# Altium schematic symbol library cb_lib.SchLib: 85 symbols
Pins are listed as number, name and electrical type; pins without a type are passive.

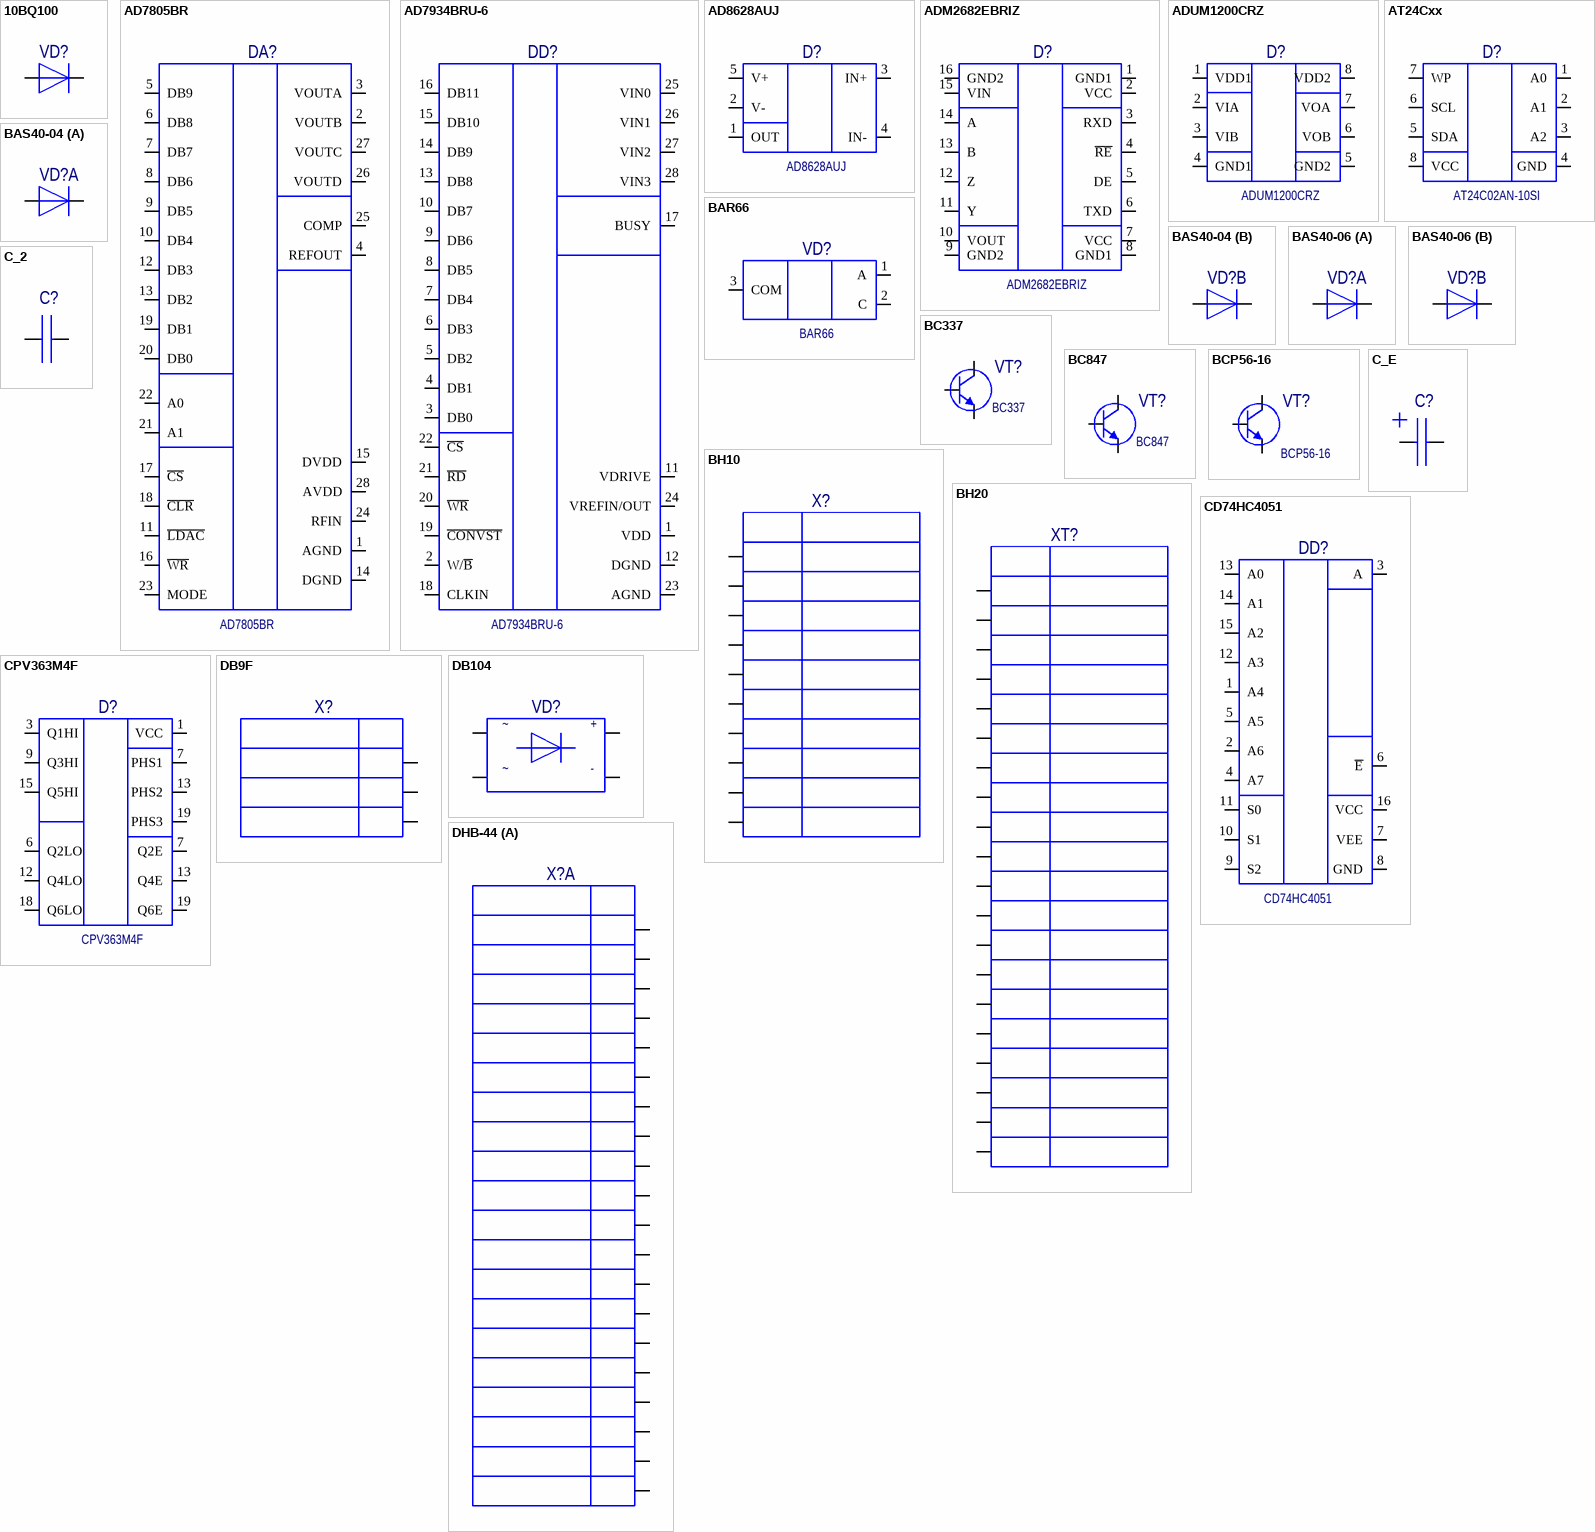
[diagram p0: symbols 10BQ100 to DHB-44]

## 10BQ100
designator VD?  (value not drawn)
Manufacturer: ф.  Vishay; Type: Диод; Pack: SMB(DO-214AA); BCDId: *; ManufacturerPartNumber: 10BQ100; TU/GOST: *; ValueBOM: *
footprint SMB (DO-214-AA/SMB; 2 C-Bend Leads; Body 5.3 x 3.6 mm, inc. leads (LxW))
pins: 1, 2

## AD7805BR
designator DA?
Manufacturer: ф. Analog Devices; BCDId: *; ManufacturerPartNumber: AD7805BR; TU/GOST: *; Type: Микросхема; ValueBOM: *
footprint SO28_M (28-Pin Plastic Small Outline Integrated Circuit 1.27 mm Pitch, IPC Low Density)
pins: 1 AGND, 2 VOUTB, 3 VOUTA, 4 REFOUT, 5 DB9, 6 DB8, 7 DB7, 8 DB6, 9 DB5, 10 DB4, 11 ~{LDAC}, 12 DB3, 13 DB2, 14 DGND, 15 DVDD, 16 ~{WR}, 17 ~{CS}, 18 ~{CLR}, 19 DB1, 20 DB0, 21 A1, 22 A0, 23 MODE, 24 RFIN, 25 COMP, 26 VOUTD, 27 VOUTC, 28 AVDD

## AD7934BRU-6
designator DD?
Manufacturer: ф. Analog Devices; BCDId: *; ManufacturerPartNumber: AD7934BRU-6; TU/GOST: *; Type: Микросхема; ValueBOM: *
footprint SO28_M (28-Pin Plastic Small Outline Integrated Circuit 1.27 mm Pitch, IPC Low Density)
pins: 1 VDD, 2 W/~{B}, 3 DB0, 4 DB1, 5 DB2, 6 DB3, 7 DB4, 8 DB5, 9 DB6, 10 DB7, 11 VDRIVE, 12 DGND, 13 DB8, 14 DB9, 15 DB10, 16 DB11, 17 BUSY, 18 CLKIN, 19 ~{CONVST}, 20 ~{WR}, 21 ~{RD}, 22 ~{CS}, 23 AGND, 24 VREFIN/OUT, 25 VIN0, 26 VIN1, 27 VIN2, 28 VIN3

## AD8628AUJ
designator D?
Manufacturer: ф. Analog Devices; Type: Микросхема; BCDId: *; ManufacturerPartNumber: AD8628AUJ; TU/GOST: *; ValueBOM: *
pins: 1 OUT, 2 V-, 3 IN+, 4 IN-, 5 V+

## ADM2682EBRIZ
designator D?
Manufacturer: ф. Analog Devices; Type: Микросхема; BCDId: *; ManufacturerPartNumber: ADM2682EBRIZ; TU/GOST: *; ValueBOM: *
pins: 1 GND1, 2 VCC, 3 RXD, 4 ~{RE}, 5 DE, 6 TXD, 7 VCC, 8 GND1, 9 GND2, 10 VOUT, 11 Y, 12 Z, 13 B, 14 A, 15 VIN, 16 GND2

## ADUM1200CRZ
designator D?
Manufacturer: ф. Analog Devices; Type: Микросхема; BCDId: *; ManufacturerPartNumber: ADUM1200CRZ; TU/GOST: *; ValueBOM: *
pins: 1 VDD1, 2 VIA, 3 VIB, 4 GND1, 5 GND2, 6 VOB, 7 VOA, 8 VDD2

## AT24Cxx
designator D?, comment AT24C02AN-10SI
Manufacturer: ф. Atmel; Type: Микросхема; BCDId: *; ManufacturerPartNumber: AT24C02AN-10SI; TU/GOST: *; ValueBOM: *
pins: 1 A0, 2 A1, 3 A2, 4 GND, 5 SDA, 6 SCL, 7 WP, 8 VCC

## BAR66
designator VD?
Manufacturer: ф. Infineon; Type: Диод; BCDId: *; ManufacturerPartNumber: BAR66; TU/GOST: *; ValueBOM: *
footprint SOT23_M (SOT23, 3-Leads, Body 2.9x1.3mm, Pitch 0.95mm, Lead Span 2.3mm - Reverse Pinning, IPC Low Density)
pins: 1 A, 2 C, 3 COM

## BAS40-04
designator VD?  (value not drawn)
Manufacturer: ф. NXP; Type: Диод; Pack: SOT23; BCDId: *; ManufacturerPartNumber: BAS40-04; TU/GOST: *; ValueBOM: *
footprint SOT23_M (SOT23, 3-Leads, Body 2.9x1.3mm, Pitch 0.95mm, Lead Span 2.3mm - Reverse Pinning, IPC Low Density)
part A pins: 1, 2
part B pins: 2, 3

## BAS40-06
designator VD?  (value not drawn)
Manufacturer: ф. NXP; Type: Диод; Pack: SOT23; BCDId: *; ManufacturerPartNumber: BAS40-06; TU/GOST: *; ValueBOM: *
footprint SOT23_M (SOT23, 3-Leads, Body 2.9x1.3mm, Pitch 0.95mm, Lead Span 2.3mm - Reverse Pinning, IPC Low Density)
part A pins: 1, 3
part B pins: 2, 3

## BC337
designator VT?
Manufacturer: ф. NXP; Type: Транзистор; BCDId: *; ManufacturerPartNumber: BC337; TU/GOST: *; ValueBOM: *
footprint TO-92A (TO, Flat Index; 3 In-Line, Axial Leads; Body Dia. 4.5mm; Leads 0.51 x 0.48 mm (max))
pins: 1 C, 2 B, 3 E

## BC847
designator VT?
Manufacturer: ф. NXP; Type: Транзистор; BCDId: *; ManufacturerPartNumber: BC847; TU/GOST: *; ValueBOM: *
footprint SOT23_M (SOT23, 3-Leads, Body 2.9x1.3mm, Pitch 0.95mm, Lead Span 2.3mm - Reverse Pinning, IPC Low Density)
pins: 1 B, 2 E, 3 C

## BCP56-16
designator VT?
Manufacturer: ф. NXP; Type: Транзистор; BCDId: *; ManufacturerPartNumber: BCP56-16; TU/GOST: *; ValueBOM: *
footprint SOT223_M (SOT223, 4-Leads, Body 6.5x3.5mm, Pitch 2.3mm, Lead Span 7mm, IPC Low Density)
pins: 1 B, 3 E, 4 C

## BH10
designator X?  (value not drawn)
Manufacturer: ф. Ningbo Zhenqin Electronic; ManufacturerPartNumber: BH-10; BCDId: *; TU/GOST: *; Type: Разъём; ValueBOM: *
footprint HDR2X5 (Connector; Header; 5x2 Position)
pins: 1, 2, 3, 4, 5, 6, 7, 8, 9, 10

## BH20
designator XT?  (value not drawn)
Manufacturer: ф. Ningbo Zhenqin Electronic; ManufacturerPartNumber: BH-20; BCDId: *; TU/GOST: *; Type: Разъём; ValueBOM: *
footprint BH20 (Connector; Header; 10x2 Position)
pins: 1, 2, 3, 4, 5, 6, 7, 8, 9, 10, 11, 12, 13, 14, 15, 16, 17, 18, 19, 20

## C_2
designator C?
Manufacturer: ф. Kemet; Name: X7R, 0805; Power/Voltage: 50В; Tolerance: 5%; Type: Конденсатор; Value: 0.1 мкФ; BCDId: *; ManufacturerPartNumber: *; Rem: *; TKE/TCK: *; TU/GOST: *; ValueBOM: *
footprint 6-0805_M (Chip Resistor, Body 2.0x1.2mm, IPC Low Density)
pins: 1, 2

## C_E
designator C?
Manufacturer: ф. Kemet; ManufacturerPartNumber: T491C106K025AT; Name: 2412; Power/Voltage: 25В; Tolerance: 10%; Type: Конденсатор; Value: 10 мкФ; BCDId: *; Package: *; Rem: *; TKE/TCK: *; TU/GOST: *; ValueBOM: *
footprint C (Capacitor, SM Tantalum; Body 6.0 x 3.2 mm (LxW typ))
pins: 1, 2

## CD74HC4051
designator DD?
Manufacturer: ф. TI; ManufacturerPartNumber: CD74HC4051M; BCDId: *; TU/GOST: *; Type: Микросхема; ValueBOM: *
footprint SO-16_M (SOIC, 16-Leads, Body 9.9x3.9mm, Pitch 1.27mm, IPC Low Density)
pins: 1 A4, 2 A6, 3 A, 4 A7, 5 A5, 6 ~{E}, 7 VEE, 8 GND, 9 S2, 10 S1, 11 S0, 12 A3, 13 A0, 14 A1, 15 A2, 16 VCC

## CPV363M4F
designator D?
Manufacturer: ф. Vishay; Type: Микросхема; BCDId: *; ManufacturerPartNumber: CPV363M4F; TU/GOST: *; ValueBOM: *
footprint IMS-2 (SIP; 19 Leads (6 Absent); Body 62.4 x 7.9 mm (LxW typ); Pitch 2.54 mm)
pins: 1 VCC, 3 Q1HI, 6 Q2LO, 7 Q2E, 7 PHS1, 9 Q3HI, 12 Q4LO, 13 Q4E, 13 PHS2, 15 Q5HI, 18 Q6LO, 19 Q6E, 19 PHS3

## DB9F
designator X?  (value not drawn)
Manufacturer: ф. Ningbo Zhenqin Electronic; ManufacturerPartNumber: DRB- 9FA (DS1037-9F); BCDId: *; TU/GOST: *; Type: Разъём; ValueBOM: *
pins: 2, 3, 5

## DB104
designator VD?  (value not drawn)
Manufacturer: ф.  Vishay; Type: Диодный мост; BCDId: *; ManufacturerPartNumber: DB104
footprint DIP-4 - diode
pins: 1, 3, 4, 6
text: ~; +; -

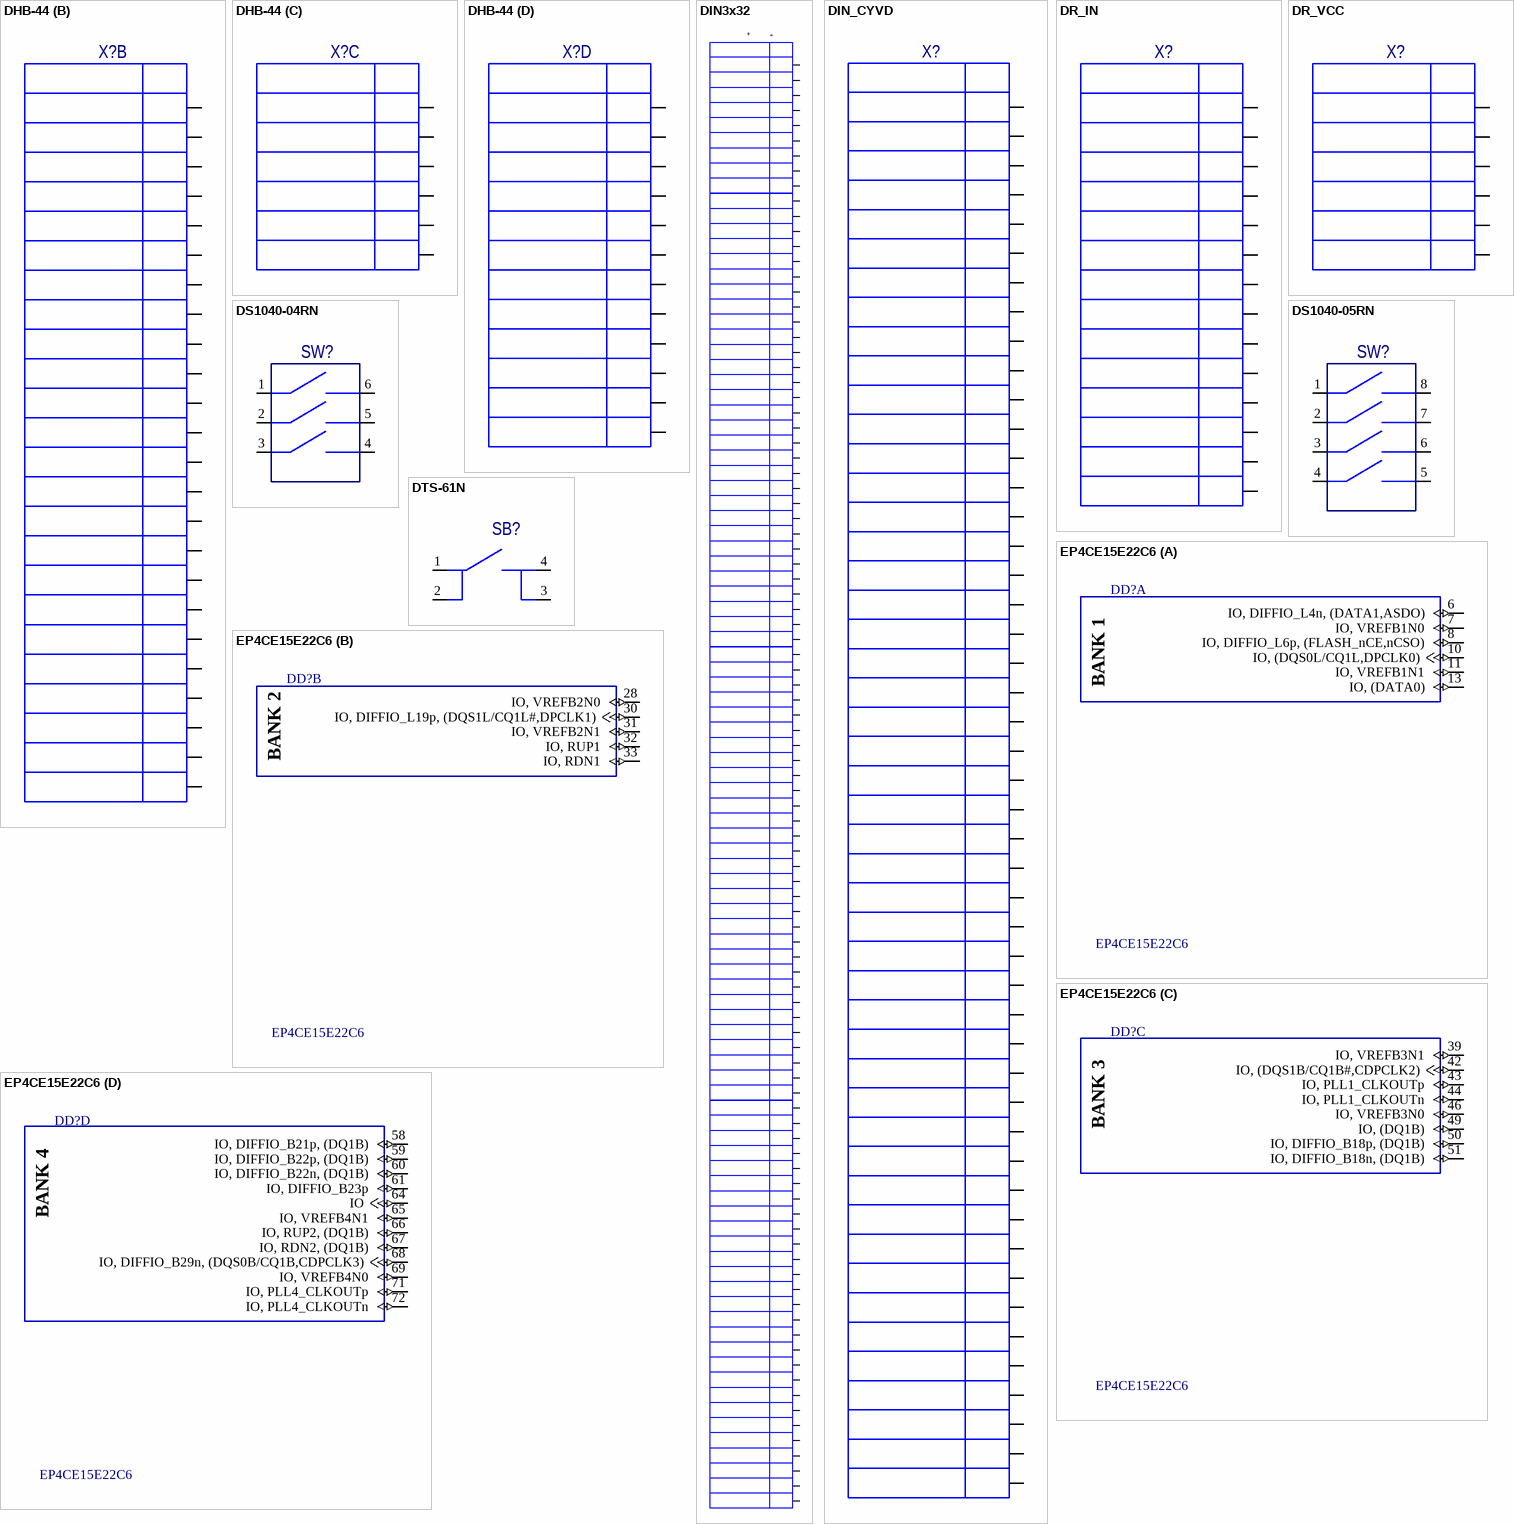
[diagram p1: symbols DHB-44 to EP4CE15E22C6]

## DHB-44
designator X?  (value not drawn)
Manufacturer: ф. Ningbo Zhenqin Electronic; BCDId: *; ManufacturerPartNumber: DHB-44; TU/GOST: *; Type: Разъём; ValueBOM: *
part A pins: 1, 2, 3, 4, 5, 6, 7, 8, 9, 10, 11, 12, 13, 14, 15, 16, 17, 18, 19, 20
part B pins: 21, 22, 23, 24, 25, 26, 27, 28, 29, 30, 31, 32, 33, 34, 35, 36, 37, 38, 39, 40, 41, 42, 43, 44
part C pins: 45, 46, 47, 48, 49, 50
part D pins: 51, 52, 53, 54, 55, 56, 57, 58, 59, 60, 61, 62

## DIN3x32
designator *
pins: 1a, 1b, 1c, 2a, 2b, 2c, 3a, 3b, 3c, 4a, 4b, 4c, 5a, 5b, 5c, 6a, 6b, 6c, 7a, 7b, 7c, 8a, 8b, 8c, 9a, 9b, 9c, 10a, 10b, 10c, 11a, 11b, 11c, 12a, 12b, 12c, 13a, 13b, 13c, 14a, 14b, 14c, 15a, 15b, 15c, 16a, 16b, 16c, 17a, 17b, 17c, 18a, 18b, 18c, 19a, 19b, 19c, 20a, 20b, 20c, 21a, 21b, 21c, 22a, 22b, 22c, 23a, 23b, 23c, 24a, 24b, 24c, 25a, 25b, 25c, 26a, 26b, 26c, 27a, 27b, 27c, 28a, 28b, 28c, 29a, 29b, 29c, 30a, 30b, 30c, 31a, 31b, 31c, 32a, 32b, 32c

## DIN_CYVD
designator X?  (value not drawn)
Manufacturer: ф. Molex Part number 85003-0177; ManufacturerPartNumber: Вилка угловая 3x32; BCDId: *; TU/GOST: *; Type: Разъём; ValueBOM: *
pins: 1a, 1b, 1c, 2a, 2b, 2c, 3a, 3b, 3c, 4a, 4b, 5a, 5b, 5c, 6a, 6b, 6c, 7a, 7b, 7c, 8a, 8b, 8c, 9a, 9b, 9c, 10a, 10b, 10c, 11a, 11b, 11c, 12a, 12c, 13a, 13b, 13c, 14a, 14b, 14c, 15a, 16a, 31a, 31b, 31c, 32a, 32b, 32c

## DR_IN
designator X?  (value not drawn)
Manufacturer: ф. TE Connectivity; ManufacturerPartNumber: Розетка 1x14 AMPMODU 1-102241-2; Otvet: 280372-2; BCDId: *; TU/GOST: *; Type: Разъём; ValueBOM: *
pins: 1, 2, 3, 4, 5, 6, 7, 8, 9, 10, 11, 12, 13, 14

## DR_VCC
designator X?  (value not drawn)
Manufacturer: ф. TE Connectivity; ManufacturerPartNumber: Вилка 1x6 AMPMODU 280372-2; BCDId: *; TU/GOST: *; Type: Разъём; ValueBOM: *
pins: 1, 2, 3, 4, 5, 6

## DS1040-04RN
designator SW?  (value not drawn)
BCDId: *; ManufacturerPartNumber: DS1040-04RN; TU/GOST: *; Type: DIP переключатель; ValueBOM: *
footprint DIP-SW-6 (DIP SWITCH; 6 Leads; Row Spacing 7.62 mm; Pitch 2.54 mm)
pins: 1, 2, 3, 4, 5, 6

## DS1040-05RN
designator SW?  (value not drawn)
Manufacturer: ф. Connfly; BCDId: *; ManufacturerPartNumber: DS1040-05RN; TU/GOST: *; Type: DIP переключатель; ValueBOM: *
footprint DIP-SW-8 (DIPSWITCH; 8 Leads; Row Spacing 7.62 mm; Pitch 2.54 mm)
pins: 1, 2, 3, 4, 5, 6, 7, 8

## DTS-61N
designator SB?  (value not drawn)
Manufacturer: ф. Switronic Industrial; BCDId: *; ManufacturerPartNumber: DTS-61N; TU/GOST: *; Type: Кнопка тактовая; ValueBOM: *
pins: 1, 2, 3, 4

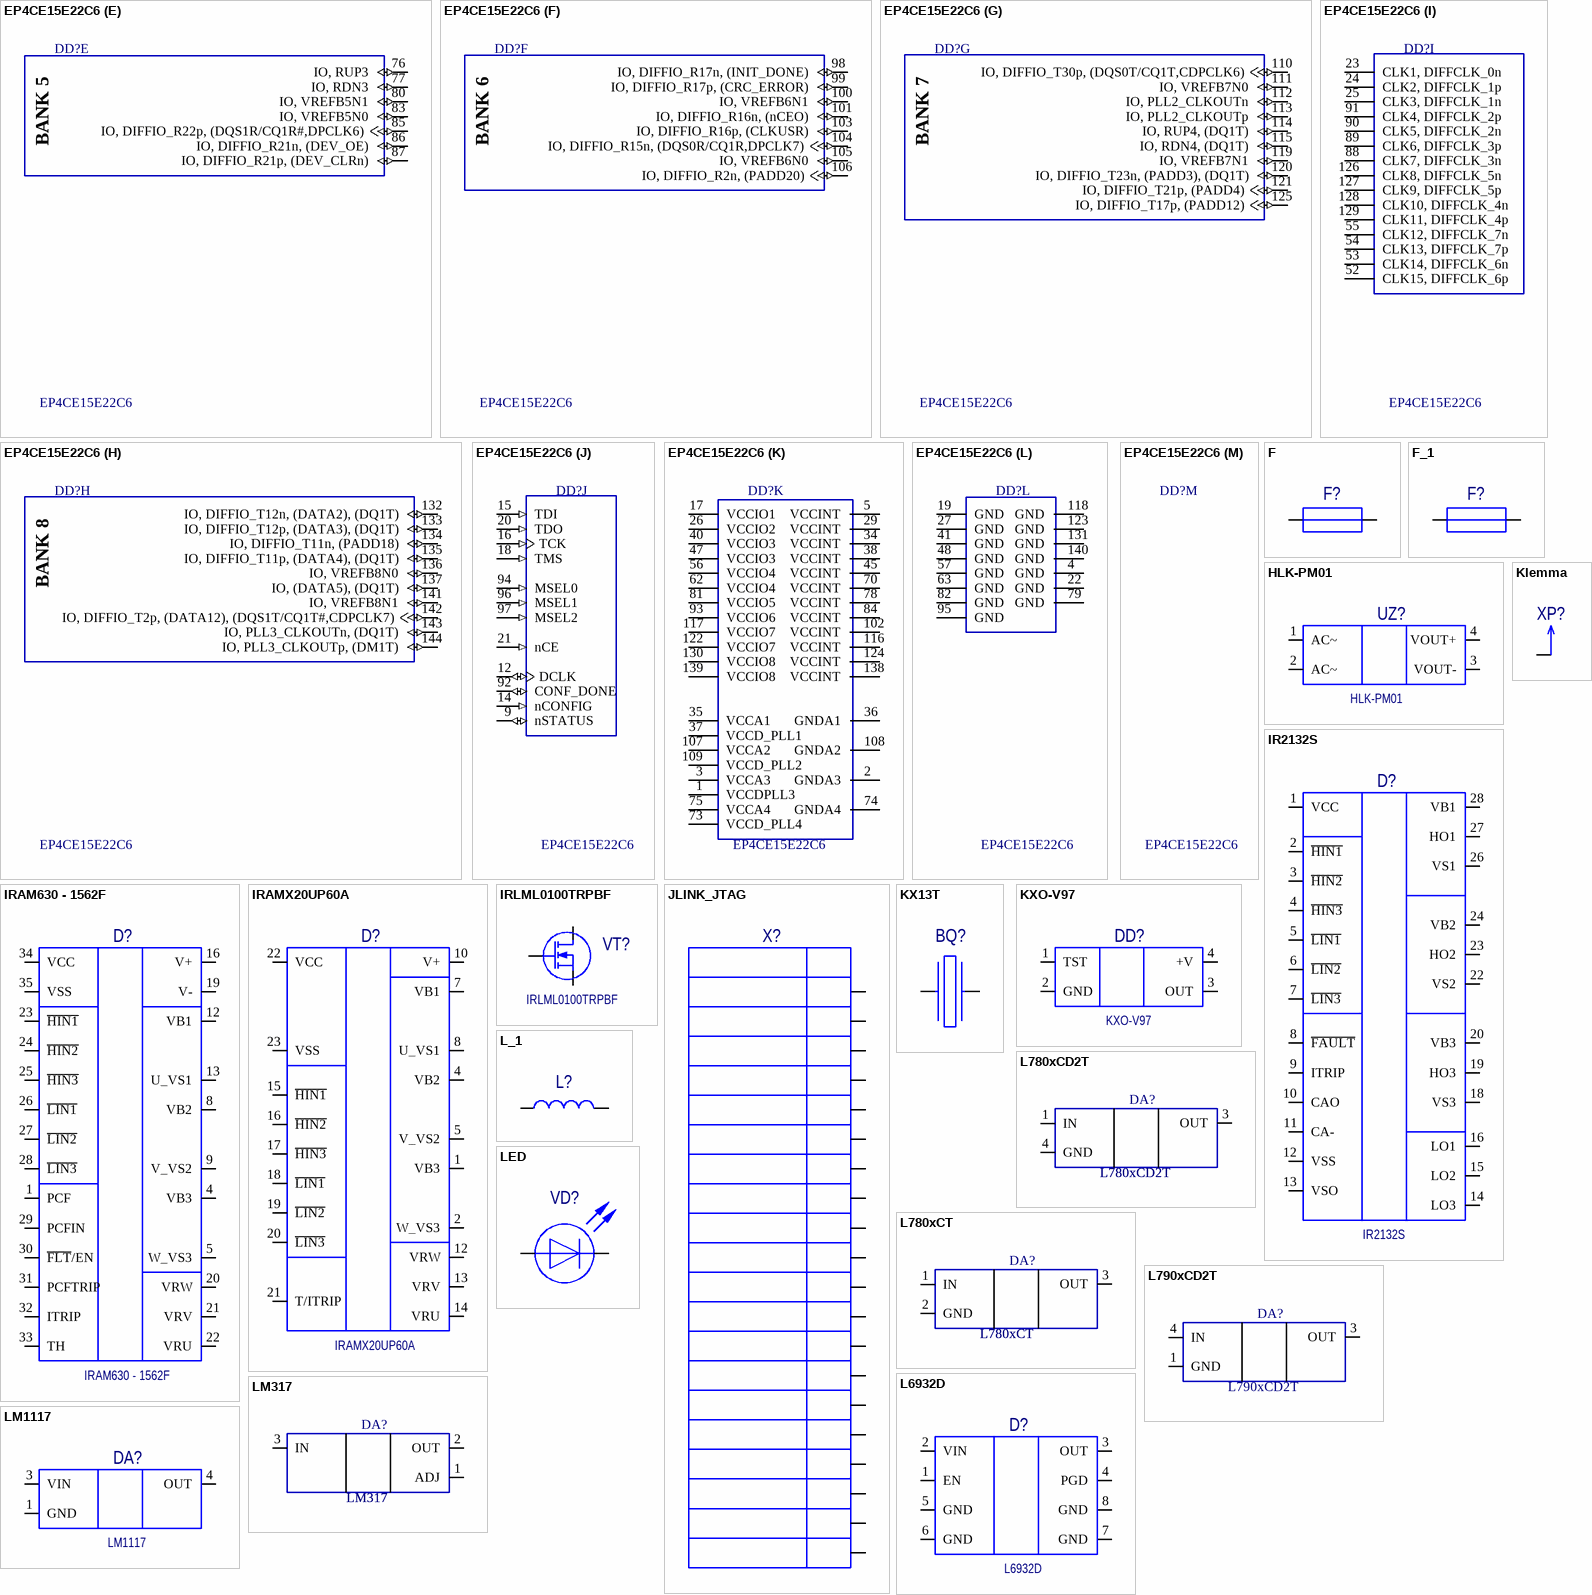
[diagram p2: symbols EP4CE15E22C6 to LM1117]

## EP4CE15E22C6
designator DD?
Cyclone IV Family FPGA, 2V Core, 81 I/O Pins, 4 PLLs, 144-Pin QFP, Speed Grade 6, Commercial Grade; Manufacturer: ф. Altera; BCDId: *; ManufacturerPartNumber: EP4CE15E22C6; Type: Микросхема
footprint EQFP144_M (Thin QFP, 144-Leads, Body 20x20mm, Pitch 0.5mm, IPC Low Density)
part A pins: 6 IO, DIFFIO_L4n, (DATA1,ASDO) (io), 7 IO, VREFB1N0 (io), 8 IO, DIFFIO_L6p, (FLASH_nCE,nCSO) (io), 10 IO, (DQS0L/CQ1L,DPCLK0) (io), 11 IO, VREFB1N1 (io), 13 IO, (DATA0) (io)
part B pins: 28 IO, VREFB2N0 (io), 30 IO, DIFFIO_L19p, (DQS1L/CQ1L#,DPCLK1) (io), 31 IO, VREFB2N1 (io), 32 IO, RUP1 (io), 33 IO, RDN1 (io)
part C pins: 39 IO, VREFB3N1 (io), 42 IO, (DQS1B/CQ1B#,CDPCLK2) (io), 43 IO, PLL1_CLKOUTp (io), 44 IO, PLL1_CLKOUTn (io), 46 IO, VREFB3N0 (io), 49 IO, (DQ1B) (io), 50 IO, DIFFIO_B18p, (DQ1B) (io), 51 IO, DIFFIO_B18n, (DQ1B) (io)
part D pins: 58 IO, DIFFIO_B21p, (DQ1B) (io), 59 IO, DIFFIO_B22p, (DQ1B) (io), 60 IO, DIFFIO_B22n, (DQ1B) (io), 61 IO, DIFFIO_B23p (io), 64 IO (io), 65 IO, VREFB4N1 (io), 66 IO, RUP2, (DQ1B) (io), 67 IO, RDN2, (DQ1B) (io), 68 IO, DIFFIO_B29n, (DQS0B/CQ1B,CDPCLK3) (io), 69 IO, VREFB4N0 (io), 71 IO, PLL4_CLKOUTp (io), 72 IO, PLL4_CLKOUTn (io)
part E pins: 76 IO, RUP3 (io), 77 IO, RDN3 (io), 80 IO, VREFB5N1 (io), 83 IO, VREFB5N0 (io), 85 IO, DIFFIO_R22p, (DQS1R/CQ1R#,DPCLK6) (io), 86 IO, DIFFIO_R21n, (DEV_OE) (io), 87 IO, DIFFIO_R21p, (DEV_CLRn) (io)
part F pins: 98 IO, DIFFIO_R17n, (INIT_DONE) (io), 99 IO, DIFFIO_R17p, (CRC_ERROR) (io), 100 IO, VREFB6N1 (io), 101 IO, DIFFIO_R16n, (nCEO) (io), 103 IO, DIFFIO_R16p, (CLKUSR) (io), 104 IO, DIFFIO_R15n, (DQS0R/CQ1R,DPCLK7) (io), 105 IO, VREFB6N0 (io), 106 IO, DIFFIO_R2n, (PADD20) (io)
part G pins: 110 IO, DIFFIO_T30p, (DQS0T/CQ1T,CDPCLK6) (io), 111 IO, VREFB7N0 (io), 112 IO, PLL2_CLKOUTn (io), 113 IO, PLL2_CLKOUTp (io), 114 IO, RUP4, (DQ1T) (io), 115 IO, RDN4, (DQ1T) (io), 119 IO, VREFB7N1 (io), 120 IO, DIFFIO_T23n, (PADD3), (DQ1T) (io), 121 IO, DIFFIO_T21p, (PADD4) (io), 125 IO, DIFFIO_T17p, (PADD12) (io)
part H pins: 132 IO, DIFFIO_T12n, (DATA2), (DQ1T) (io), 133 IO, DIFFIO_T12p, (DATA3), (DQ1T) (io), 134 IO, DIFFIO_T11n, (PADD18) (io), 135 IO, DIFFIO_T11p, (DATA4), (DQ1T) (io), 136 IO, VREFB8N0 (io), 137 IO, (DATA5), (DQ1T) (io), 141 IO, VREFB8N1 (io), 142 IO, DIFFIO_T2p, (DATA12), (DQS1T/CQ1T#,CDPCLK7) (io), 143 IO, PLL3_CLKOUTn, (DQ1T) (io), 144 IO, PLL3_CLKOUTp, (DM1T) (io)
part I pins: 23 CLK1, DIFFCLK_0n, 24 CLK2, DIFFCLK_1p, 25 CLK3, DIFFCLK_1n, 52 CLK15, DIFFCLK_6p, 53 CLK14, DIFFCLK_6n, 54 CLK13, DIFFCLK_7p, 55 CLK12, DIFFCLK_7n, 88 CLK7, DIFFCLK_3n, 89 CLK6, DIFFCLK_3p, 90 CLK5, DIFFCLK_2n, 91 CLK4, DIFFCLK_2p, 126 CLK8, DIFFCLK_5n, 127 CLK9, DIFFCLK_5p, 128 CLK10, DIFFCLK_4n, 129 CLK11, DIFFCLK_4p
part J pins: 9 nSTATUS (io), 12 DCLK (io), 14 nCONFIG (in), 15 TDI (in), 16 TCK (in), 18 TMS (in), 20 TDO (in), 21 nCE (in), 92 CONF_DONE (io), 94 MSEL0 (in), 96 MSEL1 (in), 97 MSEL2 (in)
part K pins: 1 VCCDPLL3, 2 GNDA3, 3 VCCA3, 5 VCCINT (power), 17 VCCIO1, 26 VCCIO2, 29 VCCINT (power), 34 VCCINT (power), 35 VCCA1, 36 GNDA1, 37 VCCD_PLL1, 38 VCCINT (power), 40 VCCIO3, 45 VCCINT (power), 47 VCCIO3, 56 VCCIO4, 62 VCCIO4, 70 VCCINT (power), 73 VCCD_PLL4, 74 GNDA4, 75 VCCA4, 78 VCCINT (power), 81 VCCIO5, 84 VCCINT (power), 93 VCCIO6, 102 VCCINT (power), 107 VCCA2, 108 GNDA2, 109 VCCD_PLL2, 116 VCCINT (power), 117 VCCIO7, 122 VCCIO7, 124 VCCINT (power), 130 VCCIO8, 138 VCCINT (power), 139 VCCIO8
part L pins: 4 GND (power), 19 GND (power), 22 GND (power), 27 GND (power), 41 GND (power), 48 GND (power), 57 GND (power), 63 GND (power), 79 GND (power), 82 GND (power), 95 GND (power), 118 GND (power), 123 GND (power), 131 GND (power), 140 GND (power)
part A text: BANK 1
part B text: BANK 2
part C text: BANK 3
part D text: BANK 4
part E text: BANK 5
part F text: BANK 6
part G text: BANK 7
part H text: BANK 8

## F
designator F?
Type: Деражтель для предохранителя; BCDId: *; ValueBOM: *
footprint FH-101 (Fuse)
pins: 1, 2

## F_1
designator F?
Manufacturer: ф.  Bournce; Name: MF-MSMF075/24; Type: Предохранитель; Value: 1,5 А; BCDId: *; ManufacturerPartNumber: *; Power/Voltage: *; Rem: *; TKE/TCK: *; Tolerance: *; TU/GOST: *; ValueBOM: *
footprint 1812 (Chip Capacitor, Body 4.5x3.2mm, IPC High Density)
pins: 1, 2

## HLK-PM01
designator UZ?
Manufacturer: ф. Hi-link; ManufacturerPartNumber: HLK-PM01 5В/3Вт; BCDId: *; TU/GOST: *; Type: Вторичный источник питания; ValueBOM: *
footprint HLK-PM01
pins: 1 AC~, 2 AC~, 3 VOUT-, 4 VOUT+

## IR2132S
designator D?
Manufacturer: ф. IR; Type: Микросхема; BCDId: *; ManufacturerPartNumber: IR2132S; TU/GOST: *; ValueBOM: *
pins: 1 VCC, 2 ~{HIN1}, 3 ~{HIN2}, 4 ~{HIN3}, 5 ~{LIN1}, 6 ~{LIN2}, 7 ~{LIN3}, 8 ~{FAULT}, 9 ITRIP, 10 CAO, 11 CA-, 12 VSS, 13 VSO, 14 LO3, 15 LO2, 16 LO1, 18 VS3, 19 HO3, 20 VB3, 22 VS2, 23 HO2, 24 VB2, 26 VS1, 27 HO1, 28 VB1

## IRAM630 - 1562F
designator D?
Manufacturer: ф. International Rectifier; Type: Микросхема; BCDId: *; ManufacturerPartNumber: IRAM630 - 1562F; TU/GOST: *; ValueBOM: *
pins: 1 PCF, 4 VB3, 5 W_VS3, 8 VB2, 9 V_VS2, 12 VB1, 13 U_VS1, 16 V+, 19 V-, 20 VRW, 21 VRV, 22 VRU, 23 ~{HIN1}, 24 ~{HIN2}, 25 ~{HIN3}, 26 ~{LIN1}, 27 ~{LIN2}, 28 ~{LIN3}, 29 PCFIN, 30 ~{FLT}/EN, 31 PCFTRIP, 32 ITRIP, 33 TH, 34 VCC, 35 VSS

## IRAMX20UP60A
designator D?
Manufacturer: ф. IR; Type: Микросхема; BCDId: *; ManufacturerPartNumber: IRAMX20UP60A; TU/GOST: *; ValueBOM: *
footprint IMS-2 (SIP; 19 Leads (6 Absent); Body 62.4 x 7.9 mm (LxW typ); Pitch 2.54 mm)
pins: 1 VB3, 2 W_VS3, 4 VB2, 5 V_VS2, 7 VB1, 8 U_VS1, 10 V+, 12 VRW, 13 VRV, 14 VRU, 15 ~{HIN1}, 16 ~{HIN2}, 17 ~{HIN3}, 18 ~{LIN1}, 19 ~{LIN2}, 20 ~{LIN3}, 21 T/ITRIP, 22 VCC, 23 VSS

## IRLML0100TRPBF
designator VT?
Manufacturer: ф. IR; Type: Транзистор; BCDId: *; ManufacturerPartNumber: IRLML0100TRPBF; TU/GOST: *; ValueBOM: *
footprint SOT23_M (SOT23, 3-Leads, Body 2.9x1.3mm, Pitch 0.95mm, Lead Span 2.3mm - Reverse Pinning, IPC Low Density)
pins: 1 G, 2 S, 3 D

## JLINK_JTAG
designator X?  (value not drawn)
Manufacturer: ф. Molex Part number 70247-2054; ManufacturerPartNumber: Вилка угловая 2x10; BCDId: *; TU/GOST: *; Type: Разъём; ValueBOM: *
pins: 1, 2, 3, 4, 5, 6, 7, 8, 9, 10, 11, 12, 13, 14, 15, 16, 17, 18, 19, 20

## Klemma
designator XP?  (value not drawn)
ManufacturerPartNumber: 4,8мм на плату(2310BL-2); BCDId: *; TU/GOST: *; Type: Клемма ножевая; ValueBOM: *
footprint Klem_4_8 (Klemma knife)
pins: 1

## KX13T
designator BQ?  (value not drawn)
Manufacturer: ф. Geyer Electronic e.K.; ManufacturerPartNumber: KX-13T 12.0 MHz; Pack: SMB(DO-214AA); BCDId: *; TU/GOST: *; Type: Кварцевый резонатор; ValueBOM: *
footprint kx-13t
pins: 1, 3

## KXO-V97
designator DD?
Manufacturer: ф. Geyer Electronic; ManufacturerPartNumber: KXO-V97 (50 МГц); BCDId: *; TU/GOST: *; Type: Микросхема; ValueBOM: *
footprint kxo-v97
pins: 1 TST, 2 GND, 3 OUT, 4 +V

## L780xCD2T
designator DA?
Positive Voltage Regulator; Manufacturer: ф. ST; DatasheetVersion: Dec-1998; BCDId: *; TU/GOST: *; Type: Микросхема; ValueBOM: *; ManufacturerPartNumber: L780xCD2T
footprint TO-263 (D2-PAK/TO-263-AB; 3 Leads (1 Cropped); Body 15.9 (inc. leads) x 10.4 mm (LxW max))
pins: 1 IN (power), 3 OUT (power), 4 GND (power)

## L780xCT
designator DA?
Positive Voltage Regulator; Manufacturer: ф. ST; DatasheetVersion: Dec-1998; BCDId: *; TU/GOST: *; Type: Микросхема; ValueBOM: *; ManufacturerPartNumber: L780xCT
footprint TO-220AB (TO, Thru-Hole, Vertical, Heatsink Mounted; 3 In-Line Leads; Pitch 2.54 mm)
pins: 1 IN (power), 2 GND (power), 3 OUT (power)

## L790xCD2T
designator DA?
Positive Voltage Regulator; Manufacturer: ф. ST; DatasheetVersion: Dec-1998; BCDId: *; TU/GOST: *; Type: Микросхема; ValueBOM: *; ManufacturerPartNumber: L790xCD2T
footprint TO-263 (D2-PAK/TO-263-AB; 3 Leads (1 Cropped); Body 15.9 (inc. leads) x 10.4 mm (LxW max))
pins: 1 GND (power), 3 OUT (power), 4 IN (power)

## L6932D
designator D?
Manufacturer: ф. ST; Type: Микросхема; BCDId: *; ManufacturerPartNumber: L6932D; TU/GOST: *; ValueBOM: *
footprint SO8_M (8-Pin Small Outline Integrated Circuit 1.27 mm Pitch, IPC Low Density)
pins: 1 EN, 2 VIN, 3 OUT, 4 PGD, 5 GND, 6 GND, 7 GND, 8 GND

## L_1
designator L?
Manufacturer: ф. Samsung; Name: 0603; Tolerance: 5%; Type: Катушка индуктивности; Value: 10мГн; BCDId: *; ManufacturerPartNumber: *; Power/Voltage: *; Rem: *; TKE/TCK: *; TU/GOST: *; ValueBOM: *
pins: 1, 2

## LED
designator VD?  (value not drawn)
Manufacturer: ф. Betlux Electronics; ManufacturerPartNumber: Светодиод BL-LS0603UHR (красный); Type: Диод; BCDId: *; TU/GOST: *; ValueBOM: *; Pack: SMD 0603
pins: 1, 2

## LM317
designator DA?
Positive Voltage Regulator; Manufacturer: ф. TI; DatasheetVersion: Dec-1998; BCDId: *; TU/GOST: *; Type: Микросхема; ValueBOM: *; ManufacturerPartNumber: LM317
footprint TO-220AB (TO, Thru-Hole, Vertical, Heatsink Mounted; 3 In-Line Leads; Pitch 2.54 mm)
pins: 1 ADJ (power), 2 OUT (power), 3 IN (power)

## LM1117
designator DA?
Manufacturer: ф. Texas Insrtuments; BCDId: *; ManufacturerPartNumber: LM1117; TU/GOST: *; Type: Микросхема; ValueBOM: *
footprint TO-263 (D2-PAK/TO-263-AB; 3 Leads (1 Cropped); Body 15.9 (inc. leads) x 10.4 mm (LxW max))
footprint D-PAK (D-PAK/TO-252-AA; 3 Leads (1 Cropped); Body 10.1 (inc. leads) x 6.6 mm (LxW max))
pins: 1 GND, 3 VIN, 4 OUT

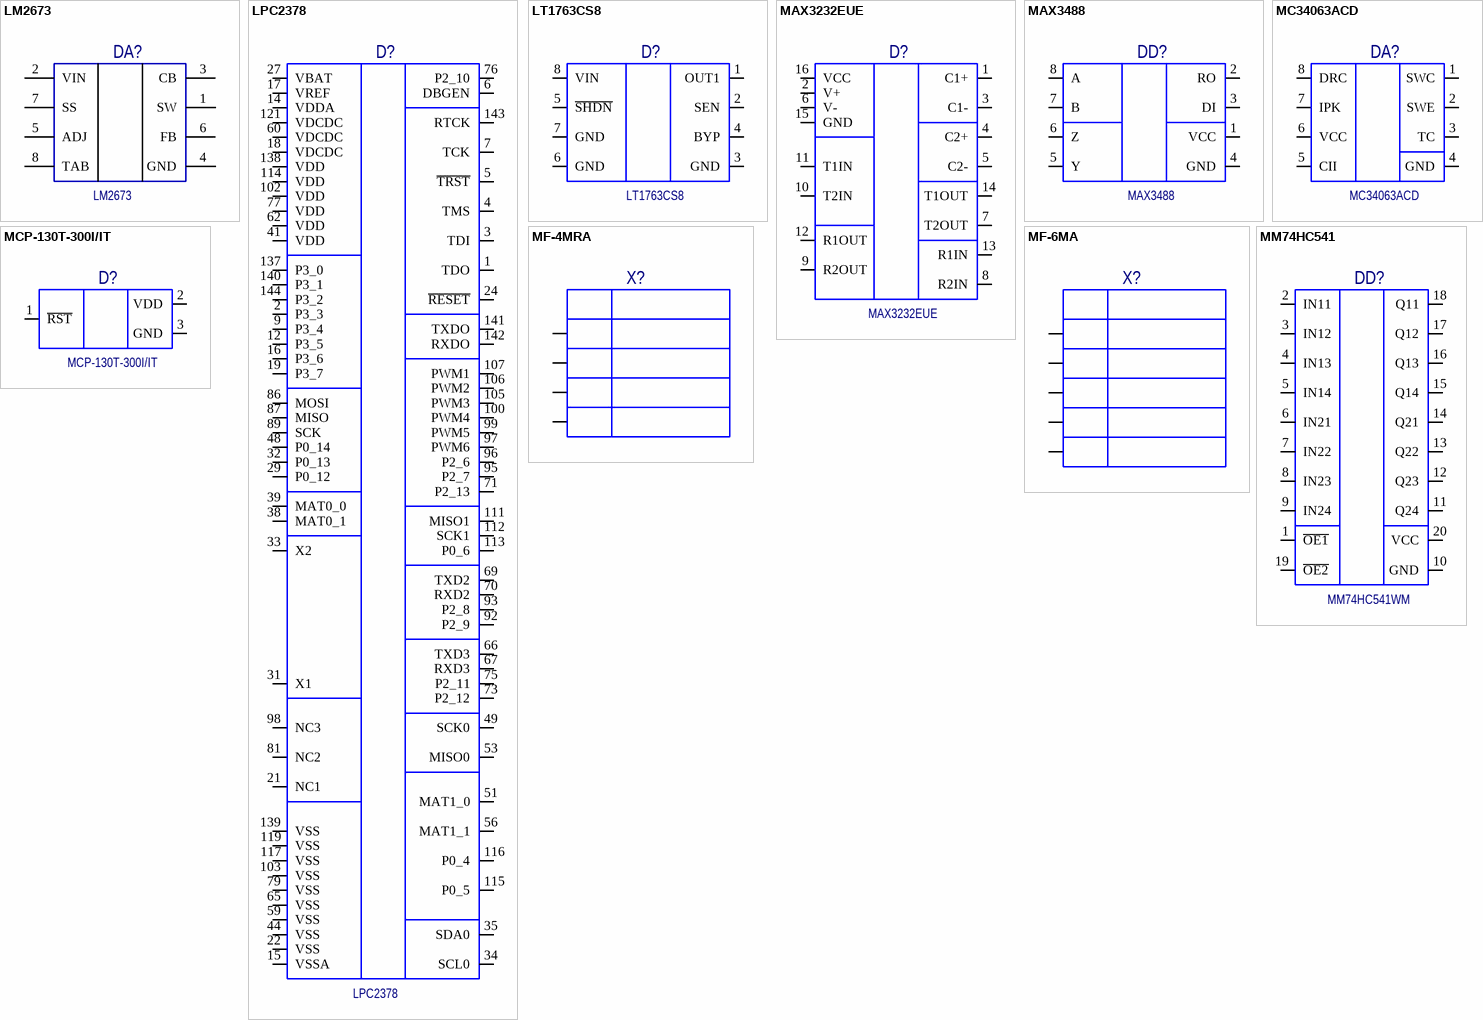
[diagram p3: symbols LM2673 to MM74HC541]

## LM2673
designator DA?
Manufacturer: ф. Texas Insrtuments; BCDId: *; ManufacturerPartNumber: LM2673; TU/GOST: *; Type: Микросхема; ValueBOM: *
footprint TS7B_M (D2-PAK, 8-Leads, Body 8.6x10.2mm, Pitch 1.27mm, Lead Span 14.1mm, IPC Low Density)
pins: 1 SW (power), 2 VIN (power), 3 CB, 4 GND (power), 5 ADJ, 6 FB, 7 SS, 8 TAB (power)

## LPC2378
designator D?
Manufacturer: ф. NXP; Type: Микросхема; BCDId: *; ManufacturerPartNumber: LPC2378; TU/GOST: *; ValueBOM: *
pins: 1 TDO, 2 P3_3, 3 TDI, 4 TMS, 5 ~{TRST}, 6 DBGEN, 7 TCK, 9 P3_4, 12 P3_5, 14 VDDA, 15 VSSA, 16 P3_6, 17 VREF, 18 VDCDC, 19 P3_7, 21 NC1, 22 VSS, 24 ~{RESET}, 27 VBAT, 29 P0_12, 31 X1, 32 P0_13, 33 X2, 34 SCL0, 35 SDA0, 38 MAT0_1, 39 MAT0_0, 41 VDD, 44 VSS, 48 P0_14, 49 SCK0, 51 MAT1_0, 53 MISO0, 56 MAT1_1, 59 VSS, 60 VDCDC, 62 VDD, 65 VSS, 66 TXD3, 67 RXD3, 69 TXD2, 70 RXD2, 71 P2_13, 73 P2_12, 75 P2_11, 76 P2_10, 77 VDD, 79 VSS, 81 NC2, 86 MOSI, 87 MISO, 89 SCK, 92 P2_9, 93 P2_8, 95 P2_7, 96 P2_6, 97 PWM6, 98 NC3, 99 PWM5, 100 PWM4, 102 VDD, 103 VSS, 105 PWM3, 106 PWM2, 107 PWM1, 111 MISO1, 112 SCK1, 113 P0_6, 114 VDD, 115 P0_5, 116 P0_4, 117 VSS, 119 VSS, 121 VDCDC, 137 P3_0, 138 VDD, 139 VSS, 140 P3_1, 141 TXDO, 142 RXDO, 143 RTCK, 144 P3_2

## LT1763CS8
designator D?
Manufacturer: ф. Linear Technology; Type: Микросхема; BCDId: *; ManufacturerPartNumber: LT1763CS8; TU/GOST: *; ValueBOM: *
pins: 1 OUT1, 2 SEN, 3 GND, 4 BYP, 5 ~{SHDN}, 6 GND, 7 GND, 8 VIN

## MAX3232EUE
designator D?
Manufacturer: ф. Maxim integrated; Type: Микросхема; BCDId: *; ManufacturerPartNumber: MAX3232EUE; TU/GOST: *; ValueBOM: *
pins: 1 C1+, 2 V+, 3 C1-, 4 C2+, 5 C2-, 6 V-, 7 T2OUT, 8 R2IN, 9 R2OUT, 10 T2IN, 11 T1IN, 12 R1OUT, 13 R1IN, 14 T1OUT, 15 GND, 16 VCC

## MAX3488
designator DD?
Manufacturer: ф. Maxim; ManufacturerPartNumber: MAX3488CSA; BCDId: *; TU/GOST: *; Type: Микросхема; ValueBOM: *
footprint SO8_M (8-Pin Small Outline Integrated Circuit 1.27 mm Pitch, IPC Low Density)
pins: 1 VCC, 2 RO, 3 DI, 4 GND, 5 Y, 6 Z, 7 B, 8 A

## MC34063ACD
designator DA?
Manufacturer: ф. ST; BCDId: *; ManufacturerPartNumber: MC34063ACD; TU/GOST: *; Type: Микросхема; ValueBOM: *
footprint SO8_M (SOIC, 8-Leads, Body 4.9x3.9mm, Pitch 1.27mm, IPC Low Density)
pins: 1 SWC, 2 SWE, 3 TC, 4 GND, 5 CII, 6 VCC, 7 IPK, 8 DRC

## MCP-130T-300I/IT
designator D?
Manufacturer: ф. Microchip; Type: Микросхема; BCDId: *; ManufacturerPartNumber: MCP-130T-300I/IT; TU/GOST: *; ValueBOM: *
pins: 1 ~{RST}, 2 VDD, 3 GND

## MF-4MRA
designator X?  (value not drawn)
ManufacturerPartNumber: Вилка 2x2 MF-4MRA; BCDId: *; Manufacturer: *; TU/GOST: *; Type: Разъём; ValueBOM: *
pins: 1, 2, 3, 4

## MF-6MA
designator X?  (value not drawn)
ManufacturerPartNumber: Вилка 2x3 MF-6MA; BCDId: *; Manufacturer: *; TU/GOST: *; Type: Разъём; ValueBOM: *
pins: 1, 2, 3, 4, 5

## MM74HC541
designator DD?, comment MM74HC541WM
Manufacturer: ф. Fairchild Semiconductor; BCDId: *; ManufacturerPartNumber: MM74HC541WM; TU/GOST: *; Type: Микросхема; ValueBOM: *
footprint SO20_M (20-Pin Plastic Small Outline Integrated Circuit 1.27 mm Pitch, IPC Low Density)
pins: 1 ~{OE1}, 2 IN11, 3 IN12, 4 IN13, 5 IN14, 6 IN21, 7 IN22, 8 IN23, 9 IN24, 10 GND, 11 Q24, 12 Q23, 13 Q22, 14 Q21, 15 Q14, 16 Q13, 17 Q12, 18 Q11, 19 ~{OE2}, 20 VCC

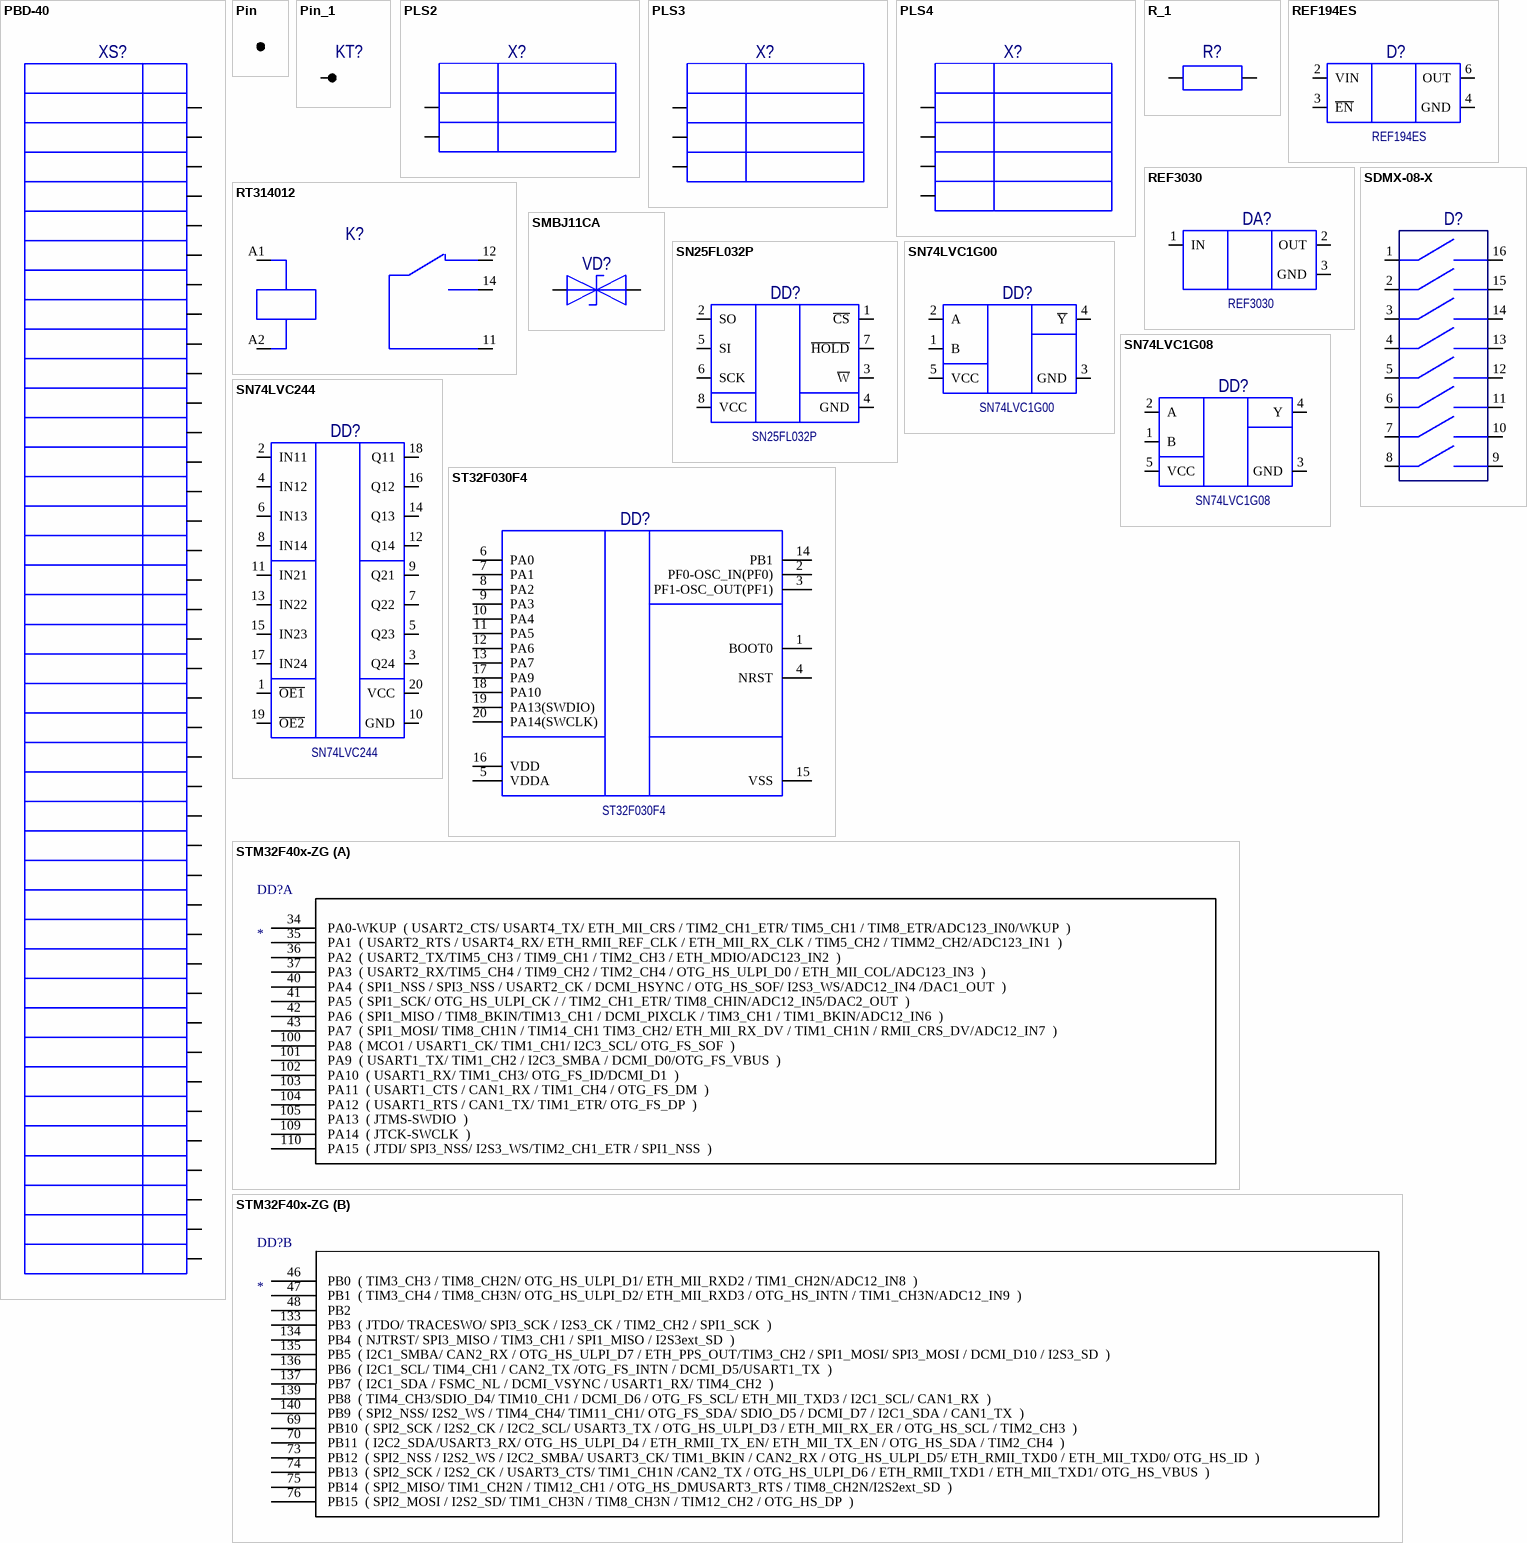
[diagram p4: symbols PBD-40 to STM32F40x-ZG]

## PBD-40
designator XS?  (value not drawn)
BCDId: *; ManufacturerPartNumber: PBD-40; TU/GOST: *; Type: Разъём; ValueBOM: *
footprint PBD40 (Connector; Header; 20x2 Position)
pins: 1, 2, 3, 4, 5, 6, 7, 8, 9, 10, 11, 12, 13, 14, 15, 16, 17, 18, 19, 20, 21, 22, 23, 24, 25, 26, 27, 28, 29, 30, 31, 32, 33, 34, 35, 36, 37, 38, 39, 40

## Pin
designator ?  (value not drawn)  (graphical)

## Pin_1
designator KT?  (value not drawn)
footprint pin (Diode, Axial; Body 5.2 x 2.7 mm (LxDia. max), Lead Dia. 0.86 mm (max))
pins: 1

## PLS2
designator X?  (value not drawn)
Manufacturer: ф. Ningbo Zhenqin Electronic; BCDId: *; ManufacturerPartNumber: PLS2; TU/GOST: *; Type: Разъём; ValueBOM: *
footprint HDR1X2 (Connector; Header; 2 Position)
pins: 1, 2

## PLS3
designator X?  (value not drawn)
Manufacturer: ф. Ningbo Zhenqin Electronic; BCDId: *; ManufacturerPartNumber: PLS3; TU/GOST: *; Type: Разъём; ValueBOM: *
footprint HDR1X3 (Connector; Header; 3 Position)
pins: 1, 2, 3

## PLS4
designator X?  (value not drawn)
Manufacturer: ф. Ningbo Zhenqin Electronic; BCDId: *; ManufacturerPartNumber: PLS4; TU/GOST: *; Type: Разъём; ValueBOM: *
footprint HDR1X4 (Connector; Header; 4 Position)
pins: 1, 2, 3, 4

## R_1
designator R?
Manufacturer: ф. Samsung; Name: 0805; Tolerance: 5%; Value: 10кОм; BCDId: *; ManufacturerPartNumber: *; Power/Voltage: *; Rem: *; TKE/TCK: *; TU/GOST: *; Type: Резистор; ValueBOM: *
footprint 6-0805_M (Chip Resistor, Body 2.0x1.2mm, IPC Low Density)
pins: 1, 2

## REF194ES
designator D?
Manufacturer: ф. Analog Devices; Type: Микросхема; BCDId: *; ManufacturerPartNumber: REF194ES; TU/GOST: *; ValueBOM: *
pins: 2 VIN, 3 ~{EN}, 4 GND, 6 OUT

## REF3030
designator DA?
Manufacturer: ф. TI; BCDId: *; ManufacturerPartNumber: REF3030; TU/GOST: *; Type: Микросхема; ValueBOM: *
footprint SOT23_M (SOT23, 3-Leads, Body 2.9x1.3mm, Pitch 0.95mm, Lead Span 2.3mm - Reverse Pinning, IPC Low Density)
pins: 1 IN, 2 OUT, 3 GND

## RT314012
designator K?  (value not drawn)
Manufacturer: ф. Tyco; BCDId: *; ManufacturerPartNumber: RT314012; Type: Реле
footprint RT1 (Realay y RT1)
pins: 11, 12, 14, A1, A2

## SDMX-08-X
designator D?  (value not drawn)
Manufacturer: ф. Bourns; Type: Переключатель; BCDId: *; ManufacturerPartNumber: SDMX-08-X; TU/GOST: *; ValueBOM: *
pins: 1, 2, 3, 4, 5, 6, 7, 8, 9, 10, 11, 12, 13, 14, 15, 16

## SMBJ11CA
designator VD?  (value not drawn)
Manufacturer: ф. Bourns; Type: Диод; Pack: SMB(DO-214AA); BCDId: *; ManufacturerPartNumber: SMBJ11CA; TU/GOST: *; ValueBOM: *
pins: 1, 2

## SN25FL032P
designator DD?
Manufacturer: ф. Spansion; BCDId: *; ManufacturerPartNumber: SN25FL032P; TU/GOST: *; Type: Микросхема; ValueBOM: *
footprint SO8W_M (8-Pin Small Outline Package 1.27 mm Pitch, IPC Low Density)
pins: 1 ~{CS}, 2 SO, 3 ~{W}, 4 GND, 5 SI, 6 SCK, 7 ~{HOLD}, 8 VCC

## SN74LVC1G00
designator DD?
Manufacturer: ф. TI; ManufacturerPartNumber: SN74LVC1G00DBVR; BCDId: *; TU/GOST: *; Type: Микросхема; ValueBOM: *
footprint DBV005 (SOT-23/SC-74A; 5 Leads; Body 3 x 3 mm, inc. leads (LxW max))
pins: 1 B, 2 A, 3 GND, 4 ~{Y}, 5 VCC

## SN74LVC1G08
designator DD?
Manufacturer: ф. TI; ManufacturerPartNumber: SN74LVC1G08DBVR; BCDId: *; TU/GOST: *; Type: Микросхема; ValueBOM: *
footprint DBV005 (SOT-23/SC-74A; 5 Leads; Body 3 x 3 mm, inc. leads (LxW max))
pins: 1 B, 2 A, 3 GND, 4 Y, 5 VCC

## SN74LVC244
designator DD?
Manufacturer: ф. TI; ManufacturerPartNumber: SN74LVC244ADWR; BCDId: *; TU/GOST: *; Type: Микросхема; ValueBOM: *
footprint SO20_M (20-Pin Plastic Small Outline Integrated Circuit 1.27 mm Pitch, IPC Low Density)
pins: 1 ~{OE1}, 2 IN11, 3 Q24, 4 IN12, 5 Q23, 6 IN13, 7 Q22, 8 IN14, 9 Q21, 10 GND, 11 IN21, 12 Q14, 13 IN22, 14 Q13, 15 IN23, 16 Q12, 17 IN24, 18 Q11, 19 ~{OE2}, 20 VCC

## ST32F030F4
designator DD?
Manufacturer: ф. ST; BCDId: *; ManufacturerPartNumber: ST32F030F4; TU/GOST: *; Type: Микросхема; ValueBOM: *
footprint SSOP20 (SSOP, Plastic; 20 Leads; Body Width 5.3 mm; Pitch 0.65 mm)
pins: 1 BOOT0 "Boot memory selection", 2 PF0-OSC_IN(PF0) "PF0-OSC_IN(PF0)/OSC_IN", 3 PF1-OSC_OUT(PF1) "PF1-OSC_OUT(PF1)/OSC_OUT", 4 NRST "Device reset input / internal reset output (active low)", 5 VDDA "Analog power supply", 6 PA0 "PA0/USART1_CTS/ADC_IN0,RTC_TAMP2,WKUP1", 7 PA1 "PA1/USART1_RTS,EVENTOUT/ADC_IN1", 8 PA2 "PA2/USART1_TX/ADC_IN2", 9 PA3 "PA3/USART1_RX/ADC_IN3", 10 PA4 "PA4/SPI1_NSS,USART1_CK,TIM14_CH1/ADC_IN4", 11 PA5 "PA5/SPI1_SCK/ADC_IN5", 12 PA6 "PA6/SPI1_MISO,TIM3_CH1,TIM1_BKIN,TIM16_CH1,EVENTOUT/ADC_IN6", 13 PA7 "PA7/SPI1_MOSI,TIM3_CH2,TIM14_CH1,TIM1_CH1N,TIM17_CH1,EVENTOUT/ADC_IN7", 14 PB1 "PB1/TIM3_CH4,TIM14_CH1,TIM1_CH3N/ADC_IN9", 15 VSS "Ground", 16 VDD "Digital power supply", 17 PA9 "PA9/USART1_TX,TIM1_CH2,I2C1_SCL", 18 PA10 "PA10/USART1_RX,TIM1_CH3,TIM17_BKIN,I2C1_SDA", 19 PA13(SWDIO) "PA13(SWDIO)/IR_OUT,SWDIO", 20 PA14(SWCLK) "PA14(SWCLK)/USART1_TX,SWCLK"

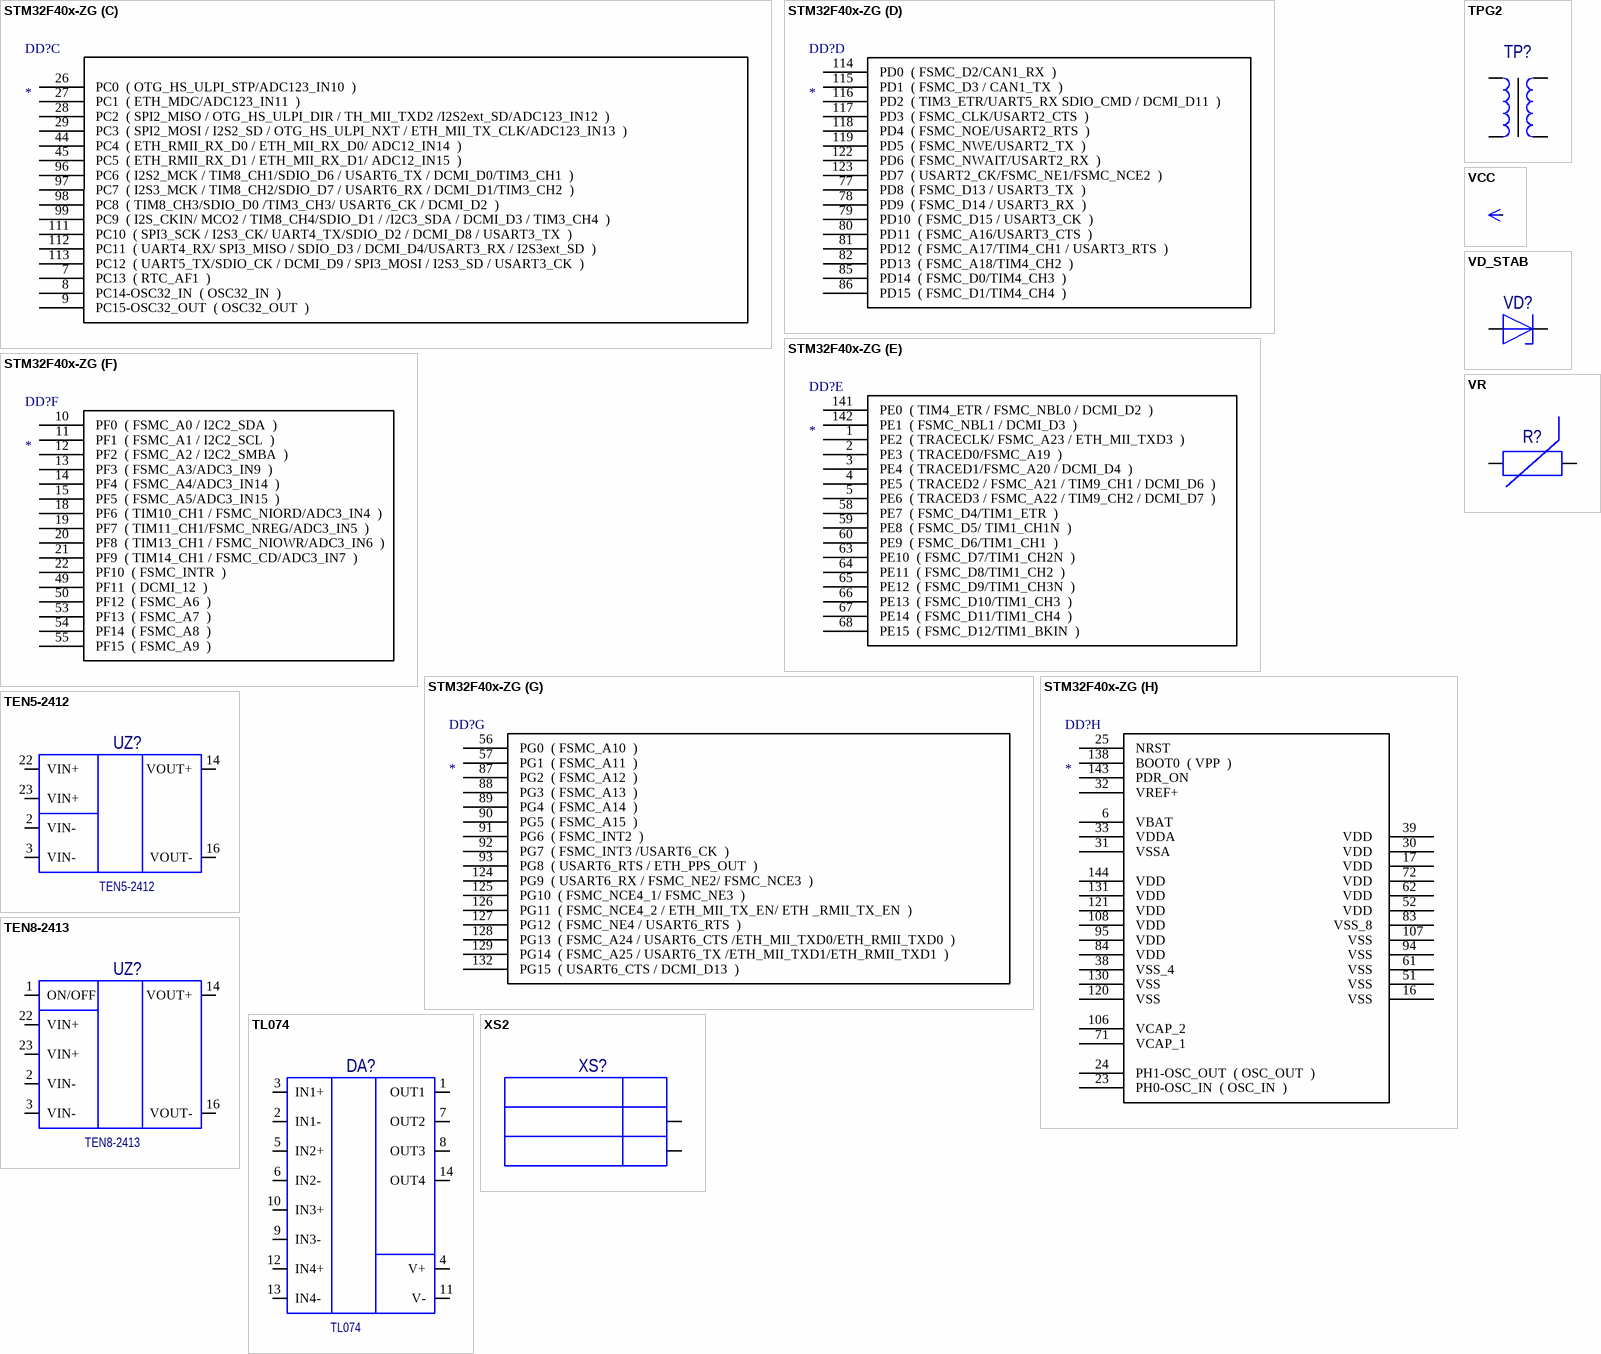
[diagram p5: symbols STM32F40x-ZG to XS2]

## STM32F40x-ZG
designator DD?
Manufacturer: ф. ST; ManufacturerPartNumber: STM32F407-ZG; BCDId: *; TU/GOST: *; Type: Микросхема; ValueBOM: *
footprint TQFP144_M (144-Pin Thin Quad Flat Pack 0.5 mm Pitch, IPC Low Density)
part A pins: 34  PA0-WKUP  ( USART2_CTS/ USART4_TX/ ETH_MII_CRS / TIM2_CH1_ETR/ TIM5_CH1 / TIM8_ETR/ADC123_IN0/WKUP  ), 35  PA1  ( USART2_RTS / USART4_RX/ ETH_RMII_REF_CLK / ETH_MII_RX_CLK / TIM5_CH2 / TIMM2_CH2/ADC123_IN1  ), 36  PA2  ( USART2_TX/TIM5_CH3 / TIM9_CH1 / TIM2_CH3 / ETH_MDIO/ADC123_IN2  ), 37  PA3  ( USART2_RX/TIM5_CH4 / TIM9_CH2 / TIM2_CH4 / OTG_HS_ULPI_D0 / ETH_MII_COL/ADC123_IN3  ), 40  PA4  ( SPI1_NSS / SPI3_NSS / USART2_CK / DCMI_HSYNC / OTG_HS_SOF/ I2S3_WS/ADC12_IN4 /DAC1_OUT  ), 41  PA5  ( SPI1_SCK/ OTG_HS_ULPI_CK / / TIM2_CH1_ETR/ TIM8_CHIN/ADC12_IN5/DAC2_OUT  ), 42  PA6  ( SPI1_MISO / TIM8_BKIN/TIM13_CH1 / DCMI_PIXCLK / TIM3_CH1 / TIM1_BKIN/ADC12_IN6  ), 43  PA7  ( SPI1_MOSI/ TIM8_CH1N / TIM14_CH1 TIM3_CH2/ ETH_MII_RX_DV / TIM1_CH1N / RMII_CRS_DV/ADC12_IN7  ), 100  PA8  ( MCO1 / USART1_CK/ TIM1_CH1/ I2C3_SCL/ OTG_FS_SOF  ), 101  PA9  ( USART1_TX/ TIM1_CH2 / I2C3_SMBA / DCMI_D0/OTG_FS_VBUS  ), 102  PA10  ( USART1_RX/ TIM1_CH3/ OTG_FS_ID/DCMI_D1  ), 103  PA11  ( USART1_CTS / CAN1_RX / TIM1_CH4 / OTG_FS_DM  ), 104  PA12  ( USART1_RTS / CAN1_TX/ TIM1_ETR/ OTG_FS_DP  ), 105  PA13  ( JTMS-SWDIO  ), 109  PA14  ( JTCK-SWCLK  ), 110  PA15  ( JTDI/ SPI3_NSS/ I2S3_WS/TIM2_CH1_ETR / SPI1_NSS  )
part B pins: 46  PB0  ( TIM3_CH3 / TIM8_CH2N/ OTG_HS_ULPI_D1/ ETH_MII_RXD2 / TIM1_CH2N/ADC12_IN8  ), 47  PB1  ( TIM3_CH4 / TIM8_CH3N/ OTG_HS_ULPI_D2/ ETH_MII_RXD3 / OTG_HS_INTN / TIM1_CH3N/ADC12_IN9  ), 48  PB2  , 69  PB10  ( SPI2_SCK / I2S2_CK / I2C2_SCL/ USART3_TX / OTG_HS_ULPI_D3 / ETH_MII_RX_ER / OTG_HS_SCL / TIM2_CH3  ), 70  PB11  ( I2C2_SDA/USART3_RX/ OTG_HS_ULPI_D4 / ETH_RMII_TX_EN/ ETH_MII_TX_EN / OTG_HS_SDA / TIM2_CH4  ), 73  PB12  ( SPI2_NSS / I2S2_WS / I2C2_SMBA/ USART3_CK/ TIM1_BKIN / CAN2_RX / OTG_HS_ULPI_D5/ ETH_RMII_TXD0 / ETH_MII_TXD0/ OTG_HS_ID  ), 74  PB13  ( SPI2_SCK / I2S2_CK / USART3_CTS/ TIM1_CH1N /CAN2_TX / OTG_HS_ULPI_D6 / ETH_RMII_TXD1 / ETH_MII_TXD1/ OTG_HS_VBUS  ), 75  PB14  ( SPI2_MISO/ TIM1_CH2N / TIM12_CH1 / OTG_HS_DMUSART3_RTS / TIM8_CH2N/I2S2ext_SD  ), 76  PB15  ( SPI2_MOSI / I2S2_SD/ TIM1_CH3N / TIM8_CH3N / TIM12_CH2 / OTG_HS_DP  ), 133  PB3  ( JTDO/ TRACESWO/ SPI3_SCK / I2S3_CK / TIM2_CH2 / SPI1_SCK  ), 134  PB4  ( NJTRST/ SPI3_MISO / TIM3_CH1 / SPI1_MISO / I2S3ext_SD  ), 135  PB5  ( I2C1_SMBA/ CAN2_RX / OTG_HS_ULPI_D7 / ETH_PPS_OUT/TIM3_CH2 / SPI1_MOSI/ SPI3_MOSI / DCMI_D10 / I2S3_SD  ), 136  PB6  ( I2C1_SCL/ TIM4_CH1 / CAN2_TX /OTG_FS_INTN / DCMI_D5/USART1_TX  ), 137  PB7  ( I2C1_SDA / FSMC_NL / DCMI_VSYNC / USART1_RX/ TIM4_CH2  ), 139  PB8  ( TIM4_CH3/SDIO_D4/ TIM10_CH1 / DCMI_D6 / OTG_FS_SCL/ ETH_MII_TXD3 / I2C1_SCL/ CAN1_RX  ), 140  PB9  ( SPI2_NSS/ I2S2_WS / TIM4_CH4/ TIM11_CH1/ OTG_FS_SDA/ SDIO_D5 / DCMI_D7 / I2C1_SDA / CAN1_TX  )
part C pins: 7  PC13  ( RTC_AF1  ), 8  PC14-OSC32_IN  ( OSC32_IN  ), 9  PC15-OSC32_OUT  ( OSC32_OUT  ), 26  PC0  ( OTG_HS_ULPI_STP/ADC123_IN10  ), 27  PC1  ( ETH_MDC/ADC123_IN11  ), 28  PC2  ( SPI2_MISO / OTG_HS_ULPI_DIR / TH_MII_TXD2 /I2S2ext_SD/ADC123_IN12  ), 29  PC3  ( SPI2_MOSI / I2S2_SD / OTG_HS_ULPI_NXT / ETH_MII_TX_CLK/ADC123_IN13  ), 44  PC4  ( ETH_RMII_RX_D0 / ETH_MII_RX_D0/ ADC12_IN14  ), 45  PC5  ( ETH_RMII_RX_D1 / ETH_MII_RX_D1/ ADC12_IN15  ), 96  PC6  ( I2S2_MCK / TIM8_CH1/SDIO_D6 / USART6_TX / DCMI_D0/TIM3_CH1  ), 97  PC7  ( I2S3_MCK / TIM8_CH2/SDIO_D7 / USART6_RX / DCMI_D1/TIM3_CH2  ), 98  PC8  ( TIM8_CH3/SDIO_D0 /TIM3_CH3/ USART6_CK / DCMI_D2  ), 99  PC9  ( I2S_CKIN/ MCO2 / TIM8_CH4/SDIO_D1 / /I2C3_SDA / DCMI_D3 / TIM3_CH4  ), 111  PC10  ( SPI3_SCK / I2S3_CK/ UART4_TX/SDIO_D2 / DCMI_D8 / USART3_TX  ), 112  PC11  ( UART4_RX/ SPI3_MISO / SDIO_D3 / DCMI_D4/USART3_RX / I2S3ext_SD  ), 113  PC12  ( UART5_TX/SDIO_CK / DCMI_D9 / SPI3_MOSI / I2S3_SD / USART3_CK  )
part D pins: 77  PD8  ( FSMC_D13 / USART3_TX  ), 78  PD9  ( FSMC_D14 / USART3_RX  ), 79  PD10  ( FSMC_D15 / USART3_CK  ), 80  PD11  ( FSMC_A16/USART3_CTS  ), 81  PD12  ( FSMC_A17/TIM4_CH1 / USART3_RTS  ), 82  PD13  ( FSMC_A18/TIM4_CH2  ), 85  PD14  ( FSMC_D0/TIM4_CH3  ), 86  PD15  ( FSMC_D1/TIM4_CH4  ), 114  PD0  ( FSMC_D2/CAN1_RX  ), 115  PD1  ( FSMC_D3 / CAN1_TX  ), 116  PD2  ( TIM3_ETR/UART5_RX SDIO_CMD / DCMI_D11  ), 117  PD3  ( FSMC_CLK/USART2_CTS  ), 118  PD4  ( FSMC_NOE/USART2_RTS  ), 119  PD5  ( FSMC_NWE/USART2_TX  ), 122  PD6  ( FSMC_NWAIT/USART2_RX  ), 123  PD7  ( USART2_CK/FSMC_NE1/FSMC_NCE2  )
part E pins: 1  PE2  ( TRACECLK/ FSMC_A23 / ETH_MII_TXD3  ), 2  PE3  ( TRACED0/FSMC_A19  ), 3  PE4  ( TRACED1/FSMC_A20 / DCMI_D4  ), 4  PE5  ( TRACED2 / FSMC_A21 / TIM9_CH1 / DCMI_D6  ), 5  PE6  ( TRACED3 / FSMC_A22 / TIM9_CH2 / DCMI_D7  ), 58  PE7  ( FSMC_D4/TIM1_ETR  ), 59  PE8  ( FSMC_D5/ TIM1_CH1N  ), 60  PE9  ( FSMC_D6/TIM1_CH1  ), 63  PE10  ( FSMC_D7/TIM1_CH2N  ), 64  PE11  ( FSMC_D8/TIM1_CH2  ), 65  PE12  ( FSMC_D9/TIM1_CH3N  ), 66  PE13  ( FSMC_D10/TIM1_CH3  ), 67  PE14  ( FSMC_D11/TIM1_CH4  ), 68  PE15  ( FSMC_D12/TIM1_BKIN  ), 141  PE0  ( TIM4_ETR / FSMC_NBL0 / DCMI_D2  ), 142  PE1  ( FSMC_NBL1 / DCMI_D3  )
part F pins: 10  PF0  ( FSMC_A0 / I2C2_SDA  ), 11  PF1  ( FSMC_A1 / I2C2_SCL  ), 12  PF2  ( FSMC_A2 / I2C2_SMBA  ), 13  PF3  ( FSMC_A3/ADC3_IN9  ), 14  PF4  ( FSMC_A4/ADC3_IN14  ), 15  PF5  ( FSMC_A5/ADC3_IN15  ), 18  PF6  ( TIM10_CH1 / FSMC_NIORD/ADC3_IN4  ), 19  PF7  ( TIM11_CH1/FSMC_NREG/ADC3_IN5  ), 20  PF8  ( TIM13_CH1 / FSMC_NIOWR/ADC3_IN6  ), 21  PF9  ( TIM14_CH1 / FSMC_CD/ADC3_IN7  ), 22  PF10  ( FSMC_INTR  ), 49  PF11  ( DCMI_12  ), 50  PF12  ( FSMC_A6  ), 53  PF13  ( FSMC_A7  ), 54  PF14  ( FSMC_A8  ), 55  PF15  ( FSMC_A9  )
part G pins: 56  PG0  ( FSMC_A10  ), 57  PG1  ( FSMC_A11  ), 87  PG2  ( FSMC_A12  ), 88  PG3  ( FSMC_A13  ), 89  PG4  ( FSMC_A14  ), 90  PG5  ( FSMC_A15  ), 91  PG6  ( FSMC_INT2  ), 92  PG7  ( FSMC_INT3 /USART6_CK  ), 93  PG8  ( USART6_RTS / ETH_PPS_OUT  ), 124  PG9  ( USART6_RX / FSMC_NE2/ FSMC_NCE3  ), 125  PG10  ( FSMC_NCE4_1/ FSMC_NE3  ), 126  PG11  ( FSMC_NCE4_2 / ETH_MII_TX_EN/ ETH _RMII_TX_EN  ), 127  PG12  ( FSMC_NE4 / USART6_RTS  ), 128  PG13  ( FSMC_A24 / USART6_CTS /ETH_MII_TXD0/ETH_RMII_TXD0  ), 129  PG14  ( FSMC_A25 / USART6_TX /ETH_MII_TXD1/ETH_RMII_TXD1  ), 132  PG15  ( USART6_CTS / DCMI_D13  )
part H pins: 6  VBAT  , 16  VSS  , 17  VDD  , 23  PH0-OSC_IN  ( OSC_IN  ), 24  PH1-OSC_OUT  ( OSC_OUT  ), 25  NRST  , 30  VDD  , 31  VSSA  , 32  VREF+  , 33  VDDA  , 38  VSS_4  , 39  VDD  , 51  VSS  , 52  VDD  , 61  VSS  , 62  VDD  , 71  VCAP_1  , 72  VDD  , 83  VSS_8  , 84  VDD  , 94  VSS  , 95  VDD  , 106  VCAP_2  , 107  VSS  , 108  VDD  , 120  VSS  , 121  VDD  , 130  VSS  , 131  VDD  , 138  BOOT0  ( VPP  ), 143  PDR_ON  , 144  VDD  

## TEN5-2412
designator UZ?
Manufacturer: ф. Tracopower; BCDId: *; ManufacturerPartNumber: TEN5-2412; TU/GOST: *; Type: Вторичный источник питания; ValueBOM: *
pins: 2 VIN-, 3 VIN-, 14 VOUT+, 16 VOUT-, 22 VIN+, 23 VIN+

## TEN8-2413
designator UZ?
Manufacturer: ф. Tracopower; BCDId: *; ManufacturerPartNumber: TEN8-2413; TU/GOST: *; Type: Вторичный источник питания; ValueBOM: *
pins: 1 ON/OFF, 2 VIN-, 3 VIN-, 14 VOUT+, 16 VOUT-, 22 VIN+, 23 VIN+

## TL074
designator DA?
Manufacturer: ф. TI; ManufacturerPartNumber: TL074ID; BCDId: *; TU/GOST: *; Type: Микросхема; ValueBOM: *
footprint SO14_M (14-Pin Small Outline Integrated Circuit 1.27 mm Pitch, IPC Low Density)
pins: 1 OUT1, 2 IN1-, 3 IN1+, 4 V+, 5 IN2+, 6 IN2-, 7 OUT2, 8 OUT3, 9 IN3-, 10 IN3+, 11 V-, 12 IN4+, 13 IN4-, 14 OUT4

## TPG2
designator TP?
ManufacturerPartNumber: ТПГ2-12В; BCDId: *; Type: Транформатор сетевой
footprint TPG2 (Transformer; 5 Leads)
pins: 1, 5, 7, 9

## VCC
designator ?  (value not drawn)  (graphical)
pins: 0

## VD_STAB
designator VD?  (value not drawn)
Manufacturer: ф. Taiwan Semiconductor; ManufacturerPartNumber: BZV55C4V3; Type: Стабилитрон; Pack: SOD-80; BCDId: *; TU/GOST: *; ValueBOM: *
pins: 1, 2

## VR
designator R?
Manufacturer: ф. Samsung; Name: 0805; Tolerance: 5%; Value: 10кОм; BCDId: *; ManufacturerPartNumber: *; Power/Voltage: *; Rem: *; TKE/TCK: *; TU/GOST: *; Type: Варистор; ValueBOM: *
footprint JVR-05 (Varistor)
pins: 1, 2

## XS2
designator XS?  (value not drawn)
Manufacturer: ф. TE Connectivity; ManufacturerPartNumber: Вилка 1x6 AMPMODU 280372-2; BCDId: *; TU/GOST: *; Type: Разъём; ValueBOM: *
pins: 1, 2